# EAGLE library part DRV8833 (library DRV8833)
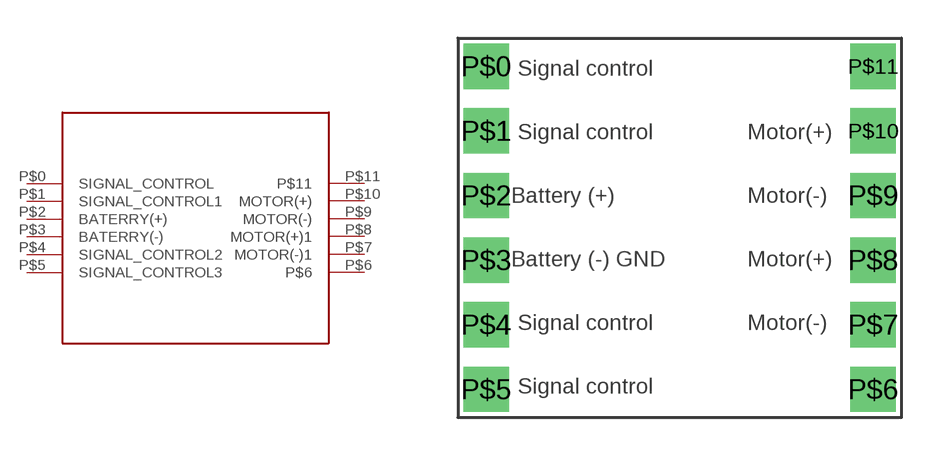
[diagram p0: symbol with the pads of DRV8833; footprint DRV8833]

Designator prefix INTENTO3

## DRV8833DRV8833  [DRV8833]
P$0  SIGNAL_CONTROL
P$1  SIGNAL_CONTROL1
P$2  BATERRY(+)
P$3  BATERRY(-)
P$4  SIGNAL_CONTROL2
P$5  SIGNAL_CONTROL3
P$6  P$6
P$7  MOTOR(-)1
P$8  MOTOR(+)1
P$9  MOTOR(-)
P$10  MOTOR(+)
P$11  P$11

## Footprint DRV8833 (pad centres in mm)
drill 0.8 pad 1.778 square: P$0 1.135,13.871; P$2 1.135,8.791; P$3 1.135,6.251; P$4 1.135,3.711; P$5 1.135,1.171; P$6 16.345,1.171; P$7 16.345,3.711; P$8 16.345,6.251; P$9 16.345,8.791; P$10 16.345,11.331; P$11 16.345,13.871
drill 1 pad 1.778 square: P$1 1.135,11.331